# EAGLE library part LT1764A* (library linear-technology)
Regulator - 3A, LDO, adjustable
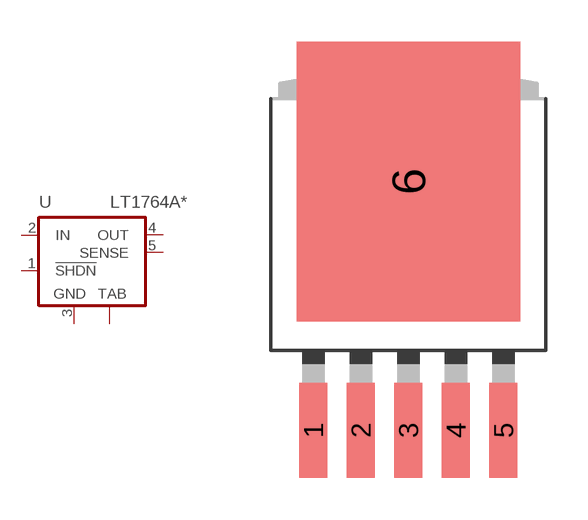
[diagram p4: symbol with the pads of DDPACK-5; footprint DDPACK-5]

Designator prefix U

## LT1764AEQ  [DDPACK-5]
1  !SHDN!  in
2  IN  pwr
3  GND  pwr
4  OUT  pwr
5  SENSE  pas
6  TAB  pwr

## Footprint DDPACK-5 (pad centres in mm)
DDPACK-5
smd 1 x 3.4: 1 -3.4,-7.875; 2 -1.7,-7.875; 3 0,-7.875; 4 1.7,-7.875; 5 3.4,-7.875
smd 8 x 10: 6 0,1.025